# Altium footprint library 001-H-01 CAN to Bluetooth.PcbLib: 40 footprints (part 3 of 3)
Each footprint in its own frame and in the unit in brackets; x right, y up, seen from the top. Pads: shape width x height; smd on the part's side, far side on the other; paste and mask are expansions set on the pad; w line width, h text height; cw(c..) or ccw(c..) is an arc to the next point about the centre after c.
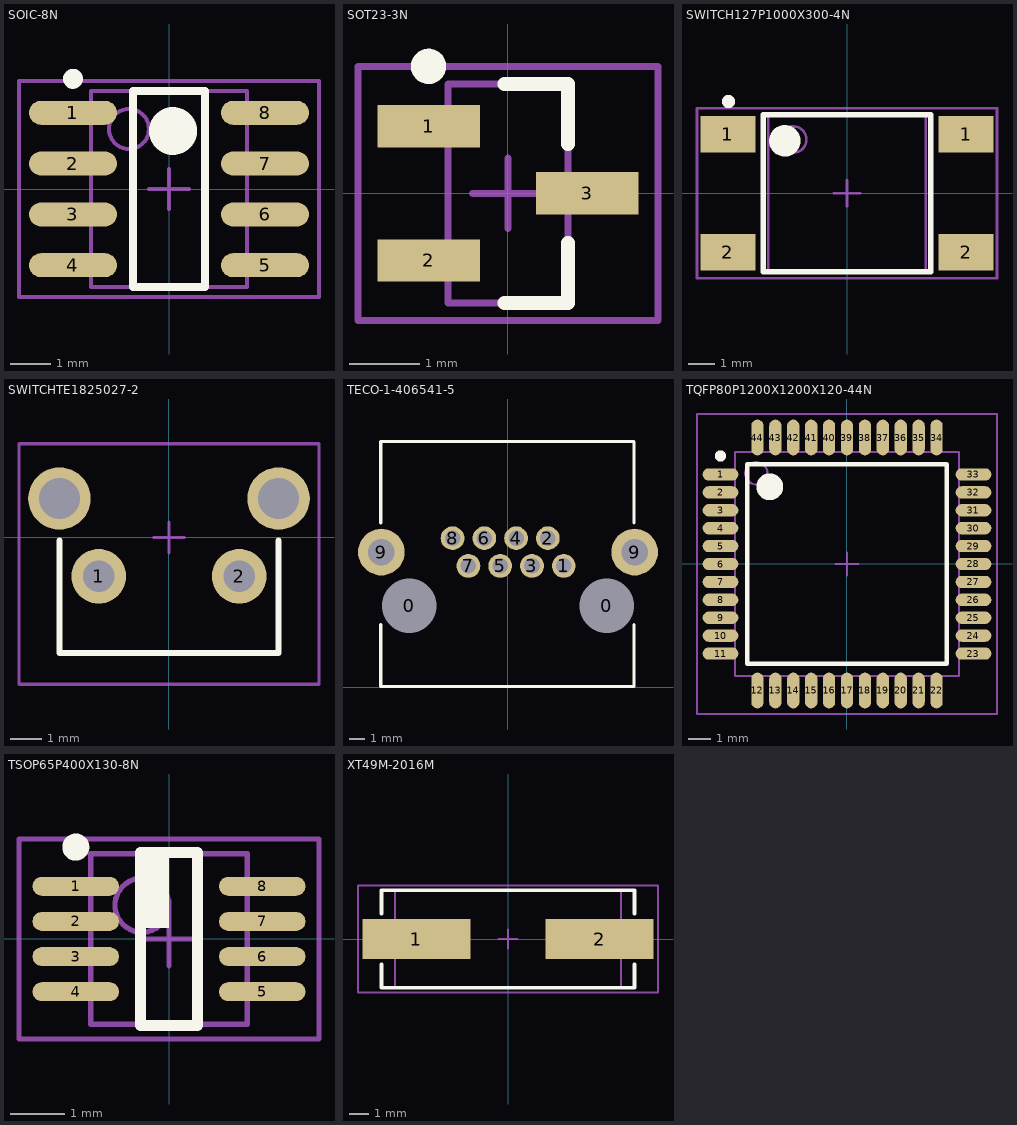
[diagram p2: the footprints below, top view; thin cyan lines are the x and y axes]

## SOIC-8N [mm] "SOIC, 8-Leads, Body 4.9x3.9mm (max), Pitch 1.27mm, IPC Medium Density"
height 1.75
pads (8):
  oval 2.2x0.6 smd: 1(-2.4,1.905) 2(-2.4,0.635) 3(-2.4,-0.635) 4(-2.4,-1.905) 5(2.4,-1.905) 6(2.4,-0.635) 7(2.4,0.635) 8(2.4,1.905)
Top Overlay:
  circle w0.6: c0.1,1.45 r0.3
  circle w0.25: c-2.4,2.755 r0.125
  lines w0.2: -0.9,-2.45 0.9,-2.45 0.9,2.45 -0.9,2.45 -0.9,-2.45
Mechanical 13:
  circle w0.1: c-1,1.5 r0.5
  lines w0.1: -1.95,-2.45 1.95,-2.45 1.95,2.45 -1.95,2.45 -1.95,-2.45
Mechanical 15:
  lines w0.1: -0.5,0 0.5,0 ; 0,-0.5 0,0.5 ; -3.75,-2.7 3.75,-2.7 3.75,2.7 -3.75,2.7 -3.75,-2.7
3D body: height 1.75, standoff 0.1, extent -1.95,-2.45 1.95,2.45
3D body "SOIC-8.step": height 1.75, standoff 0, extent -3,-2.45 3,2.45

## SOT23-3N [mm] "SOT23, 3-Leads, Body 3.1x3.0mm (max), Pitch 0.95mm, IPC Medium Density"
height 1.45
pads (3):
  rect 1.45x0.6 smd: 1(-1.125,0.95) 2(-1.125,-0.95) 3(1.125,0)
Top Overlay:
  circle w0.25: c-1.125,1.8 r0.125
  lines w0.2: -0.05,-1.55 0.85,-1.55 0.85,-0.7 ; -0.05,1.55 0.85,1.55 0.85,0.7
Mechanical 13:
  lines w0.1: -0.85,-1.55 0.85,-1.55 0.85,1.55 -0.85,1.55 -0.85,-1.55
Mechanical 15:
  lines w0.1: -0.5,0 0.5,0 ; 0,-0.5 0,0.5 ; -2.125,-1.8 2.125,-1.8 2.125,1.8 -2.125,1.8 -2.125,-1.8
3D body: height 1.45, standoff 0.1, extent -0.85,-1.55 0.85,1.55
3D body "CircuitWorks-SOT-23.step": height 1.05, standoff -0.05, extent -1.25,-1.5 1.25,1.5

## SWITCH127P1000X300-4N [mm] "SWITCH, 4-Leads, Body 6.0x6.0mm (max), Pitch 1.27mm, IPC Medium Density"
height 3
pads (4):
  rect 2.1x1.4 smd: 1(-4.55,2.25) 1(4.55,2.25) 2(-4.55,-2.25) 2(4.55,-2.25)
Top Overlay:
  circle w0.25: c-4.525,3.5 r0.125
  circle w0.6: c-2.375,2 r0.3
  lines w0.2: -3.2,-3 -3.2,3 3.2,3 3.2,-3 -3.2,-3
Mechanical 13:
  circle w0.1: c-2.05,2.05 r0.5
  lines w0.1: -3,-3 -3,3 3,3 3,-3 -3,-3
Mechanical 15:
  lines w0.1: -0.5,0 0.5,0 ; 0,-0.5 0,0.5 ; -5.725,-3.25 -5.725,3.25 5.725,3.25 5.725,-3.25 -5.725,-3.25
3D body "User Library-TS-1150S-WP.step": height 5, standoff 0, extent -4,-3.25 4,3.25

## SWITCHTE1825027-2 [mm] "SWITCH, 2-Leads, Body 7.0x7.0mm (max), Pitch 4.5mm, IPC Medium Density"
pads (4):
  round 1.75 hole 1: 1(-2.25,-1.245) 2(2.25,-1.245)
  round 2 hole 1.3: ""(-3.505,1.245) ""(3.505,1.245)
Top Overlay:
  lines w0.2: -3.505,-0.1 -3.505,-3.7 3.505,-3.7 3.505,-0.1
Mechanical 15:
  lines w0.1: -0.5,0 0.5,0 ; 0,-0.5 0,0.5 ; -4.8,-4.7 -4.8,3 4.8,3 4.8,-4.7 -4.8,-4.7
3D body "c-1825027-2-g-3d.stp": height 7, standoff -3.52, extent -4.204,-4.359 4.204,2.791

## TECO-1-406541-5 [mil] "MODULAR, JACK, THT, R/A, RJ45, 8P8C"
pads (12):
  round 60 hole 137.8 unplated: 0(-248.94,207) 0(251.06,207)
  round 60 hole 39.37: 1(142,307) 2(101.85,377.08) 3(61.69,307) 4(21.53,377.08) 5(-18.63,307) 6(-58.78,377.08) 7(-98.94,307) 8(-139.1,377.08)
  round 118.11 hole 66.93: 9(-319.02,342.04) 9(321.14,342.04)
Top Overlay:
  lines w7.87: -320.6,159.37 -320.6,1.89 319.17,1.89 319.17,159.37 ; -320.6,415.27 -320.6,621.97 319.17,621.97 319.17,415.27
3D body "c-1-406541-5-m1-3d.stp": height 527.7, standoff -162.3, extent -320,0 320,620

## TQFP80P1200X1200X120-44N [mm] "TQFP, 44-Leads, Body 12.0x12.0mm (max), Pitch 0.80mm, IPC Medium Density"
height 1.2
pads (44):
  oval 1.6x0.55 smd: 1(-5.65,4) 2(-5.65,3.2) 3(-5.65,2.4) 4(-5.65,1.6) 5(-5.65,0.8) 6(-5.65,0) 7(-5.65,-0.8) 8(-5.65,-1.6) 9(-5.65,-2.4) 10(-5.65,-3.2) 11(-5.65,-4) 23(5.65,-4) 24(5.65,-3.2) 25(5.65,-2.4) 26(5.65,-1.6) 27(5.65,-0.8) 28(5.65,0) 29(5.65,0.8) 30(5.65,1.6) 31(5.65,2.4) 32(5.65,3.2) 33(5.65,4)
  oval 0.55x1.6 smd: 12(-4,-5.65) 13(-3.2,-5.65) 14(-2.4,-5.65) 15(-1.6,-5.65) 16(-0.8,-5.65) 17(0,-5.65) 18(0.8,-5.65) 19(1.6,-5.65) 20(2.4,-5.65) 21(3.2,-5.65) 22(4,-5.65) 34(4,5.65) 35(3.2,5.65) 36(2.4,5.65) 37(1.6,5.65) 38(0.8,5.65) 39(0,5.65) 40(-0.8,5.65) 41(-1.6,5.65) 42(-2.4,5.65) 43(-3.2,5.65) 44(-4,5.65)
Top Overlay:
  circle w0.6: c-3.45,3.45 r0.3
  circle w0.25: c-5.65,4.825 r0.125
  lines w0.2: -4.45,-4.45 4.45,-4.45 4.45,4.45 -4.45,4.45 -4.45,-4.45
Mechanical 13:
  circle w0.1: c-4.05,4.05 r0.5
  lines w0.1: -5,-5 5,-5 5,5 -5,5 -5,-5
Mechanical 15:
  lines w0.1: -0.5,0 0.5,0 ; 0,-0.5 0,0.5 ; -6.7,-6.7 6.7,-6.7 6.7,6.7 -6.7,6.7 -6.7,-6.7
3D body "User Library-44 pin tqfp ic package.step": height 1.12, standoff 0.01, extent -6,-6 6,6
3D body: height 17.5, standoff -17.5, extent -10.668,-1.524 -10.668,-1.524

## TSOP65P400X130-8N [mm] "TSOP, 8-Leads, Body 3.2x2.9mm (max), Pitch 0.65mm, IPC Medium Density"
height 1.3
pads (8):
  oval 1.6x0.35 smd: 1(-1.725,0.975) 2(-1.725,0.325) 3(-1.725,-0.325) 4(-1.725,-0.975) 5(1.725,-0.975) 6(1.725,-0.325) 7(1.725,0.325) 8(1.725,0.975)
Top Overlay:
  circle w0.25: c-1.725,1.7 r0.125
  rectangle: -0.525,0.2 0,1.6
  lines w0.2: -0.525,-1.6 -0.525,1.6 0.525,1.6 0.525,-1.6 -0.525,-1.6
Mechanical 13:
  circle w0.1: c-0.5,0.625 r0.5
  lines w0.1: -1.45,-1.575 -1.45,1.575 1.45,1.575 1.45,-1.575 -1.45,-1.575
Mechanical 15:
  lines w0.1: -0.5,0 0.5,0 ; 0,-0.5 0,0.5 ; -2.775,-1.85 -2.775,1.85 2.775,1.85 2.775,-1.85 -2.775,-1.85
3D body: height 1.3, standoff 0.1, extent -1.45,-1.575 1.45,1.575

## XT49M-2016M [mm] "Crystal, 2-Leads, Body 11.0x4.7mm, IPC Medium Density"
height 4.5
pads (2):
  rect 5.55x2.05 smd: 1(-4.7,0) 2(4.7,0)
Top Overlay:
  lines w0.2: -6.5,-1.3 -6.5,-2.5 6.5,-2.5 6.5,-1.3 ; -6.5,1.3 -6.5,2.5 6.5,2.5 6.5,1.3
Mechanical 13:
  lines w0.1: -5.8,-2.5 5.8,-2.5 5.8,2.5 -5.8,2.5 -5.8,-2.5
Mechanical 15:
  lines w0.1: -0.5,0 0.5,0 ; 0,-0.5 0,0.5 ; -7.7,-2.75 7.7,-2.75 7.7,2.75 -7.7,2.75 -7.7,-2.75
3D body: height 4.5, standoff 0, extent -5.8,-2.5 5.8,2.5
3D body "User Library-hcm49.step": height 4.24, standoff 0, extent -6.2,-2.415 6.2,2.415